# Altium footprint library Diodes.PcbLib: 3 footprints
Each footprint in its own frame and in the unit in brackets; x right, y up, seen from the top. Pads: shape width x height; smd on the part's side, far side on the other; paste and mask are expansions set on the pad; w line width, h text height; cw(c..) or ccw(c..) is an arc to the next point about the centre after c.
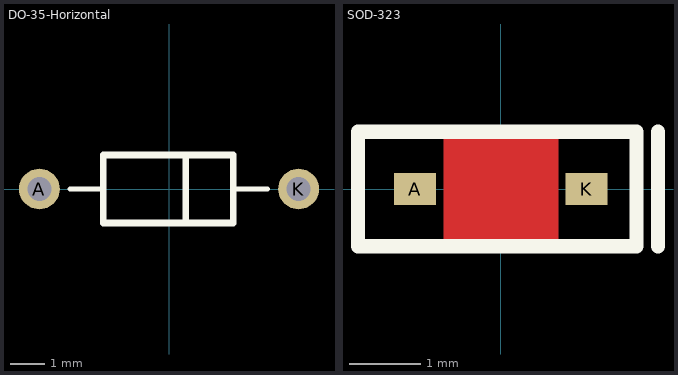
[diagram p0: the footprints below, top view; thin cyan lines are the x and y axes]

## DO-35-Horizontal [mm]
pads (2):
  round 1.2 hole 0.7: A(-3.81,0) K(3.81,0)
Top Overlay:
  lines w0.15: -2.91,0 -1.935,0 ; 1.89,0 2.89,0
  lines w0.2: -1.935,1 -1.935,0 -1.935,-1 1.89,-1 1.89,1 -1.91,1 ; 0.49,-1 0.49,1
3D body "Diode 1N4148.stp": height 1.65, standoff -2.71, extent -4.01,-0.819 4.01,0.819

## DO-35-Vertical [mm]

## SOD-323 [mm]
pads (2):
  rect 0.59x0.45 smd: A(-1.2,0) K(1.2,0)
Top Layer:
  pour cut-out: -0.8,0.7 -0.8,-0.7 0.8,-0.7 0.8,0.7
Top Overlay:
  lines w0.2: 2.2,-0.8 2.2,0.8 ; -2,-0.8 1.9,-0.8 1.9,0.8 -2,0.8 -2,-0.125 -2,-0.8
3D body "SOD-323.step": height 1.17, standoff 0.02, extent -1.35,-0.723 1.35,0.723